# Altium schematic symbol library switchboard_misc.SchLib: 4 symbols
Pins are listed as number, name and electrical type; pins without a type are passive.

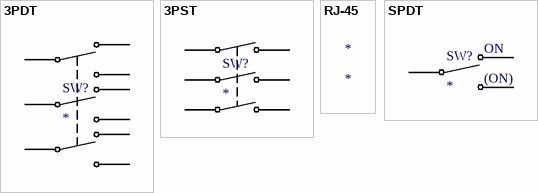
[diagram p0: symbols 3PDT to SPDT]

## 3PDT
designator SW?
footprint 2368-54-323PC-ND
pins: 1, 1, 1, 2, 2, 2, 2, 2, 2

## 3PST
designator SW?
pins: 1, 1, 1, 2, 2, 2

## RJ-45
designator *

## SPDT
designator SW?
Momentary
footprint 2368-54-301PC-ND
pins: 1, 2, 2
text: ON; (ON)